# Altium schematic symbol library Resistors[Thin_Chip].SchLib: 110 symbols
Pins are listed as number, name and electrical type; pins without a type are passive.

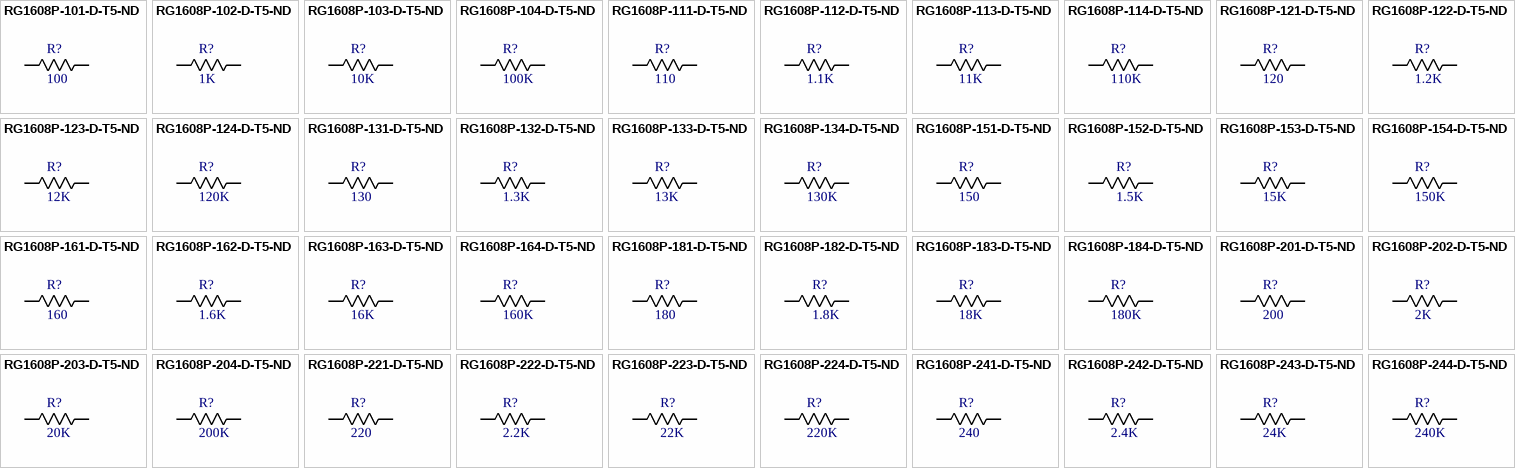
[diagram p0: symbols RG1608P-101-D-T5-ND to RG1608P-244-D-T5-ND]

## RG1608P-101-D-T5-ND
designator R?, comment 100
RES SMD 100 OHM 0.5% 1/10W 0603; Manufacturer_Part_Number: RG1608P-101-D-T5-ND; Vendor: Susumu; Built_By: EMA_UL_Team; SourceLibrary: Susumu_2015_05_08; Copyright: Copyright (C) 2018 Accelerated Designs. All rights reserved; RefDes: RefDes; Type: DEV; Footprint Type: 0603
footprint RES_0816_SUS
footprint RES_0816_SUS(My_MAXI)
pins: 1, 2

## RG1608P-102-D-T5-ND
designator R?, comment 1K
RES SMD 1K OHM 0.5% 1/10W 0603; Manufacturer_Part_Number: RG1608P-102-D-T5-ND; Vendor: Susumu; Built_By: EMA_UL_Team; SourceLibrary: Susumu_2015_05_08; Copyright: Copyright (C) 2018 Accelerated Designs. All rights reserved; RefDes: RefDes; Type: DEV; Footprint Type: 0603
footprint RES_0816_SUS
footprint RES_0816_SUS(My_MAXI)
pins: 1, 2

## RG1608P-103-D-T5-ND
designator R?, comment 10K
RES SMD 10K OHM 0.5% 1/10W 0603; Manufacturer_Part_Number: RG1608P-103-D-T5-ND; Vendor: Susumu; Built_By: EMA_UL_Team; SourceLibrary: Susumu_2015_05_08; Copyright: Copyright (C) 2018 Accelerated Designs. All rights reserved; RefDes: RefDes; Type: DEV; Footprint Type: 0603
footprint RES_0816_SUS
footprint RES_0816_SUS(My_MAXI)
pins: 1, 2

## RG1608P-104-D-T5-ND
designator R?, comment 100K
RES SMD 100K OHM 0.5% 1/10W 0603; Manufacturer_Part_Number: RG1608P-104-D-T5-ND; Vendor: Susumu; Built_By: EMA_UL_Team; SourceLibrary: Susumu_2015_05_08; Copyright: Copyright (C) 2018 Accelerated Designs. All rights reserved; RefDes: RefDes; Type: DEV; Footprint Type: 0603
footprint RES_0816_SUS
footprint RES_0816_SUS(My_MAXI)
pins: 1, 2

## RG1608P-111-D-T5-ND
designator R?, comment 110
RES SMD 110 OHM 0.5% 1/10W 0603; Manufacturer_Part_Number: RG1608P-111-D-T5-ND; Vendor: Susumu; Built_By: EMA_UL_Team; SourceLibrary: Susumu_2015_05_08; Copyright: Copyright (C) 2018 Accelerated Designs. All rights reserved; RefDes: RefDes; Type: DEV; Footprint Type: 0603
footprint RES_0816_SUS
footprint RES_0816_SUS(My_MAXI)
pins: 1, 2

## RG1608P-112-D-T5-ND
designator R?, comment 1.1K
RES SMD 1.1K OHM 0.5% 1/10W 0603; Manufacturer_Part_Number: RG1608P-112-D-T5-ND; Vendor: Susumu; Built_By: EMA_UL_Team; SourceLibrary: Susumu_2015_05_08; Copyright: Copyright (C) 2018 Accelerated Designs. All rights reserved; RefDes: RefDes; Type: DEV; Footprint Type: 0603
footprint RES_0816_SUS
footprint RES_0816_SUS(My_MAXI)
pins: 1, 2

## RG1608P-113-D-T5-ND
designator R?, comment 11K
RES SMD 11K OHM 0.5% 1/10W 0603; Manufacturer_Part_Number: RG1608P-113-D-T5-ND; Vendor: Susumu; Built_By: EMA_UL_Team; SourceLibrary: Susumu_2015_05_08; Copyright: Copyright (C) 2018 Accelerated Designs. All rights reserved; RefDes: RefDes; Type: DEV
footprint RES_0816_SUS
footprint RES_0816_SUS(My_MAXI)
pins: 1, 2

## RG1608P-114-D-T5-ND
designator R?, comment 110K
RES SMD 110K OHM 0.5% 1/10W 0603; Manufacturer_Part_Number: RG1608P-114-D-T5-ND; Vendor: Susumu; Built_By: EMA_UL_Team; SourceLibrary: Susumu_2015_05_08; Copyright: Copyright (C) 2018 Accelerated Designs. All rights reserved; RefDes: RefDes; Type: DEV
footprint RES_0816_SUS
footprint RES_0816_SUS(My_MAXI)
pins: 1, 2

## RG1608P-121-D-T5-ND
designator R?, comment 120
RES SMD 120 OHM 0.5% 1/10W 0603; Manufacturer_Part_Number: RG1608P-121-D-T5-ND; Vendor: Susumu; Built_By: EMA_UL_Team; SourceLibrary: Susumu_2015_05_08; Copyright: Copyright (C) 2018 Accelerated Designs. All rights reserved; RefDes: RefDes; Type: DEV
footprint RES_0816_SUS
footprint RES_0816_SUS(My_MAXI)
pins: 1, 2

## RG1608P-122-D-T5-ND
designator R?, comment 1.2K
RES SMD 1.2K OHM 0.5% 1/10W 0603; Manufacturer_Part_Number: RG1608P-122-D-T5-ND; Vendor: Susumu; Built_By: EMA_UL_Team; SourceLibrary: Susumu_2015_05_08; Copyright: Copyright (C) 2018 Accelerated Designs. All rights reserved; RefDes: RefDes; Type: DEV
footprint RES_0816_SUS
footprint RES_0816_SUS(My_MAXI)
pins: 1, 2

## RG1608P-123-D-T5-ND
designator R?, comment 12K
RES SMD 12K OHM 0.5% 1/10W 0603; Manufacturer_Part_Number: RG1608P-123-D-T5-ND; Vendor: Susumu; Built_By: EMA_UL_Team; SourceLibrary: Susumu_2015_05_08; Copyright: Copyright (C) 2018 Accelerated Designs. All rights reserved; RefDes: RefDes; Type: DEV
footprint RES_0816_SUS
footprint RES_0816_SUS(My_MAXI)
pins: 1, 2

## RG1608P-124-D-T5-ND
designator R?, comment 120K
RES SMD 120K OHM 0.5% 1/10W 0603; Manufacturer_Part_Number: RG1608P-124-D-T5-ND; Vendor: Susumu; Built_By: EMA_UL_Team; SourceLibrary: Susumu_2015_05_08; Copyright: Copyright (C) 2018 Accelerated Designs. All rights reserved; RefDes: RefDes; Type: DEV
footprint RES_0816_SUS
footprint RES_0816_SUS(My_MAXI)
pins: 1, 2

## RG1608P-131-D-T5-ND
designator R?, comment 130
RES SMD 130 OHM 0.5% 1/10W 0603; Manufacturer_Part_Number: RG1608P-131-D-T5-ND; Vendor: Susumu; Built_By: EMA_UL_Team; SourceLibrary: Susumu_2015_05_08; Copyright: Copyright (C) 2018 Accelerated Designs. All rights reserved; RefDes: RefDes; Type: DEV
footprint RES_0816_SUS
footprint RES_0816_SUS(My_MAXI)
pins: 1, 2

## RG1608P-132-D-T5-ND
designator R?, comment 1.3K
RES SMD 1.3K OHM 0.5% 1/10W 0603; Manufacturer_Part_Number: RG1608P-132-D-T5-ND; Vendor: Susumu; Built_By: EMA_UL_Team; SourceLibrary: Susumu_2015_05_08; Copyright: Copyright (C) 2018 Accelerated Designs. All rights reserved; RefDes: RefDes; Type: DEV
footprint RES_0816_SUS
footprint RES_0816_SUS(My_MAXI)
pins: 1, 2

## RG1608P-133-D-T5-ND
designator R?, comment 13K
RES SMD 13K OHM 0.5% 1/10W 0603; Manufacturer_Part_Number: RG1608P-133-D-T5-ND; Vendor: Susumu; Built_By: EMA_UL_Team; SourceLibrary: Susumu_2015_05_08; Copyright: Copyright (C) 2018 Accelerated Designs. All rights reserved; RefDes: RefDes; Type: DEV
footprint RES_0816_SUS
footprint RES_0816_SUS(My_MAXI)
pins: 1, 2

## RG1608P-134-D-T5-ND
designator R?, comment 130K
RES SMD 130K OHM 0.5% 1/10W 0603; Manufacturer_Part_Number: RG1608P-134-D-T5-ND; Vendor: Susumu; Built_By: EMA_UL_Team; SourceLibrary: Susumu_2015_05_08; Copyright: Copyright (C) 2018 Accelerated Designs. All rights reserved; RefDes: RefDes; Type: DEV
footprint RES_0816_SUS
footprint RES_0816_SUS(My_MAXI)
pins: 1, 2

## RG1608P-151-D-T5-ND
designator R?, comment 150
RES SMD 150 OHM 0.5% 1/10W 0603; Manufacturer_Part_Number: RG1608P-151-D-T5-ND; Vendor: Susumu; Built_By: EMA_UL_Team; SourceLibrary: Susumu_2015_05_08; Copyright: Copyright (C) 2018 Accelerated Designs. All rights reserved; RefDes: RefDes; Type: DEV
footprint RES_0816_SUS
footprint RES_0816_SUS(My_MAXI)
pins: 1, 2

## RG1608P-152-D-T5-ND
designator R?, comment 1.5K
RES SMD 1.5K OHM 0.5% 1/10W 0603; Manufacturer_Part_Number: RG1608P-152-D-T5-ND; Vendor: Susumu; Built_By: EMA_UL_Team; SourceLibrary: Susumu_2015_05_08; Copyright: Copyright (C) 2018 Accelerated Designs. All rights reserved; RefDes: RefDes; Type: DEV
footprint RES_0816_SUS
footprint RES_0816_SUS(My_MAXI)
pins: 1, 2

## RG1608P-153-D-T5-ND
designator R?, comment 15K
RES SMD 15K OHM 0.5% 1/10W 0603; Manufacturer_Part_Number: RG1608P-153-D-T5-ND; Vendor: Susumu; Built_By: EMA_UL_Team; SourceLibrary: Susumu_2015_05_08; Copyright: Copyright (C) 2018 Accelerated Designs. All rights reserved; RefDes: RefDes; Type: DEV
footprint RES_0816_SUS
footprint RES_0816_SUS(My_MAXI)
pins: 1, 2

## RG1608P-154-D-T5-ND
designator R?, comment 150K
RES SMD 150K OHM 0.5% 1/10W 0603; Manufacturer_Part_Number: RG1608P-154-D-T5-ND; Vendor: Susumu; Built_By: EMA_UL_Team; SourceLibrary: Susumu_2015_05_08; Copyright: Copyright (C) 2018 Accelerated Designs. All rights reserved; RefDes: RefDes; Type: DEV
footprint RES_0816_SUS
footprint RES_0816_SUS(My_MAXI)
pins: 1, 2

## RG1608P-161-D-T5-ND
designator R?, comment 160
RES SMD 160 OHM 0.5% 1/10W 0603; Manufacturer_Part_Number: RG1608P-161-D-T5-ND; Vendor: Susumu; Built_By: EMA_UL_Team; SourceLibrary: Susumu_2015_05_08; Copyright: Copyright (C) 2018 Accelerated Designs. All rights reserved; RefDes: RefDes; Type: DEV
footprint RES_0816_SUS
footprint RES_0816_SUS(My_MAXI)
pins: 1, 2

## RG1608P-162-D-T5-ND
designator R?, comment 1.6K
RES SMD 1.6K OHM 0.5% 1/10W 0603; Manufacturer_Part_Number: RG1608P-162-D-T5-ND; Vendor: Susumu; Built_By: EMA_UL_Team; SourceLibrary: Susumu_2015_05_08; Copyright: Copyright (C) 2018 Accelerated Designs. All rights reserved; RefDes: RefDes; Type: DEV
footprint RES_0816_SUS
footprint RES_0816_SUS(My_MAXI)
pins: 1, 2

## RG1608P-163-D-T5-ND
designator R?, comment 16K
RES SMD 16K OHM 0.5% 1/10W 0603; Manufacturer_Part_Number: RG1608P-163-D-T5-ND; Vendor: Susumu; Built_By: EMA_UL_Team; SourceLibrary: Susumu_2015_05_08; Copyright: Copyright (C) 2018 Accelerated Designs. All rights reserved; RefDes: RefDes; Type: DEV
footprint RES_0816_SUS
footprint RES_0816_SUS(My_MAXI)
pins: 1, 2

## RG1608P-164-D-T5-ND
designator R?, comment 160K
RES SMD 160K OHM 0.5% 1/10W 0603; Manufacturer_Part_Number: RG1608P-164-D-T5-ND; Vendor: Susumu; Built_By: EMA_UL_Team; SourceLibrary: Susumu_2015_05_08; Copyright: Copyright (C) 2018 Accelerated Designs. All rights reserved; RefDes: RefDes; Type: DEV
footprint RES_0816_SUS
footprint RES_0816_SUS(My_MAXI)
pins: 1, 2

## RG1608P-181-D-T5-ND
designator R?, comment 180
RES SMD 180 OHM 0.5% 1/10W 0603; Manufacturer_Part_Number: RG1608P-181-D-T5-ND; Vendor: Susumu; Built_By: EMA_UL_Team; SourceLibrary: Susumu_2015_05_08; Copyright: Copyright (C) 2018 Accelerated Designs. All rights reserved; RefDes: RefDes; Type: DEV
footprint RES_0816_SUS
footprint RES_0816_SUS(My_MAXI)
pins: 1, 2

## RG1608P-182-D-T5-ND
designator R?, comment 1.8K
RES SMD 1.8K OHM 0.5% 1/10W 0603; Manufacturer_Part_Number: RG1608P-182-D-T5-ND; Vendor: Susumu; Built_By: EMA_UL_Team; SourceLibrary: Susumu_2015_05_08; Copyright: Copyright (C) 2018 Accelerated Designs. All rights reserved; RefDes: RefDes; Type: DEV
footprint RES_0816_SUS
footprint RES_0816_SUS(My_MAXI)
pins: 1, 2

## RG1608P-183-D-T5-ND
designator R?, comment 18K
RES SMD 18K OHM 0.5% 1/10W 0603; Manufacturer_Part_Number: RG1608P-183-D-T5-ND; Vendor: Susumu; Built_By: EMA_UL_Team; SourceLibrary: Susumu_2015_05_08; Copyright: Copyright (C) 2018 Accelerated Designs. All rights reserved; RefDes: RefDes; Type: DEV
footprint RES_0816_SUS
footprint RES_0816_SUS(My_MAXI)
pins: 1, 2

## RG1608P-184-D-T5-ND
designator R?, comment 180K
RES SMD 180K OHM 0.5% 1/10W 0603; Manufacturer_Part_Number: RG1608P-184-D-T5-ND; Vendor: Susumu; Built_By: EMA_UL_Team; SourceLibrary: Susumu_2015_05_08; Copyright: Copyright (C) 2018 Accelerated Designs. All rights reserved; RefDes: RefDes; Type: DEV
footprint RES_0816_SUS
footprint RES_0816_SUS(My_MAXI)
pins: 1, 2

## RG1608P-201-D-T5-ND
designator R?, comment 200
RES SMD 200 OHM 0.5% 1/10W 0603; Manufacturer_Part_Number: RG1608P-201-D-T5-ND; Vendor: Susumu; Built_By: EMA_UL_Team; SourceLibrary: Susumu_2015_05_08; Copyright: Copyright (C) 2018 Accelerated Designs. All rights reserved; RefDes: RefDes; Type: DEV
footprint RES_0816_SUS
footprint RES_0816_SUS(My_MAXI)
pins: 1, 2

## RG1608P-202-D-T5-ND
designator R?, comment 2K
RES SMD 2K OHM 0.5% 1/10W 0603; Manufacturer_Part_Number: RG1608P-202-D-T5-ND; Vendor: Susumu; Built_By: EMA_UL_Team; SourceLibrary: Susumu_2015_05_08; Copyright: Copyright (C) 2018 Accelerated Designs. All rights reserved; RefDes: RefDes; Type: DEV
footprint RES_0816_SUS
footprint RES_0816_SUS(My_MAXI)
pins: 1, 2

## RG1608P-203-D-T5-ND
designator R?, comment 20K
RES SMD 20K OHM 0.5% 1/10W 0603; Manufacturer_Part_Number: RG1608P-203-D-T5-ND; Vendor: Susumu; Built_By: EMA_UL_Team; SourceLibrary: Susumu_2015_05_08; Copyright: Copyright (C) 2018 Accelerated Designs. All rights reserved; RefDes: RefDes; Type: DEV
footprint RES_0816_SUS
footprint RES_0816_SUS(My_MAXI)
pins: 1, 2

## RG1608P-204-D-T5-ND
designator R?, comment 200K
RES SMD 200K OHM 0.5% 1/10W 0603; Manufacturer_Part_Number: RG1608P-204-D-T5-ND; Vendor: Susumu; Built_By: EMA_UL_Team; SourceLibrary: Susumu_2015_05_08; Copyright: Copyright (C) 2018 Accelerated Designs. All rights reserved; RefDes: RefDes; Type: DEV
footprint RES_0816_SUS
footprint RES_0816_SUS(My_MAXI)
pins: 1, 2

## RG1608P-221-D-T5-ND
designator R?, comment 220
RES SMD 220 OHM 0.5% 1/10W 0603; Manufacturer_Part_Number: RG1608P-221-D-T5-ND; Vendor: Susumu; Built_By: EMA_UL_Team; SourceLibrary: Susumu_2015_05_08; Copyright: Copyright (C) 2018 Accelerated Designs. All rights reserved; RefDes: RefDes; Type: DEV
footprint RES_0816_SUS
footprint RES_0816_SUS(My_MAXI)
pins: 1, 2

## RG1608P-222-D-T5-ND
designator R?, comment 2.2K
RES SMD 2.2K OHM 0.5% 1/10W 0603; Manufacturer_Part_Number: RG1608P-222-D-T5-ND; Vendor: Susumu; Built_By: EMA_UL_Team; SourceLibrary: Susumu_2015_05_08; Copyright: Copyright (C) 2018 Accelerated Designs. All rights reserved; RefDes: RefDes; Type: DEV
footprint RES_0816_SUS
footprint RES_0816_SUS(My_MAXI)
pins: 1, 2

## RG1608P-223-D-T5-ND
designator R?, comment 22K
RES SMD 22K OHM 0.5% 1/10W 0603; Manufacturer_Part_Number: RG1608P-223-D-T5-ND; Vendor: Susumu; Built_By: EMA_UL_Team; SourceLibrary: Susumu_2015_05_08; Copyright: Copyright (C) 2018 Accelerated Designs. All rights reserved; RefDes: RefDes; Type: DEV
footprint RES_0816_SUS
footprint RES_0816_SUS(My_MAXI)
pins: 1, 2

## RG1608P-224-D-T5-ND
designator R?, comment 220K
RES SMD 220K OHM 0.5% 1/10W 0603; Manufacturer_Part_Number: RG1608P-224-D-T5-ND; Vendor: Susumu; Built_By: EMA_UL_Team; SourceLibrary: Susumu_2015_05_08; Copyright: Copyright (C) 2018 Accelerated Designs. All rights reserved; RefDes: RefDes; Type: DEV
footprint RES_0816_SUS
footprint RES_0816_SUS(My_MAXI)
pins: 1, 2

## RG1608P-241-D-T5-ND
designator R?, comment 240
RES SMD 240 OHM 0.5% 1/10W 0603; Manufacturer_Part_Number: RG1608P-241-D-T5-ND; Vendor: Susumu; Built_By: EMA_UL_Team; SourceLibrary: Susumu_2015_05_08; Copyright: Copyright (C) 2018 Accelerated Designs. All rights reserved; RefDes: RefDes; Type: DEV
footprint RES_0816_SUS
footprint RES_0816_SUS(My_MAXI)
pins: 1, 2

## RG1608P-242-D-T5-ND
designator R?, comment 2.4K
RES SMD 2.4K OHM 0.5% 1/10W 0603; Manufacturer_Part_Number: RG1608P-242-D-T5-ND; Vendor: Susumu; Built_By: EMA_UL_Team; SourceLibrary: Susumu_2015_05_08; Copyright: Copyright (C) 2018 Accelerated Designs. All rights reserved; RefDes: RefDes; Type: DEV
footprint RES_0816_SUS
footprint RES_0816_SUS(My_MAXI)
pins: 1, 2

## RG1608P-243-D-T5-ND
designator R?, comment 24K
RES SMD 24K OHM 0.5% 1/10W 0603; Manufacturer_Part_Number: RG1608P-243-D-T5-ND; Vendor: Susumu; Built_By: EMA_UL_Team; SourceLibrary: Susumu_2015_05_08; Copyright: Copyright (C) 2018 Accelerated Designs. All rights reserved; RefDes: RefDes; Type: DEV
footprint RES_0816_SUS
footprint RES_0816_SUS(My_MAXI)
pins: 1, 2

## RG1608P-244-D-T5-ND
designator R?, comment 240K
RES SMD 240K OHM 0.5% 1/10W 0603; Manufacturer_Part_Number: RG1608P-244-D-T5-ND; Vendor: Susumu; Built_By: EMA_UL_Team; SourceLibrary: Susumu_2015_05_08; Copyright: Copyright (C) 2018 Accelerated Designs. All rights reserved; RefDes: RefDes; Type: DEV
footprint RES_0816_SUS
footprint RES_0816_SUS(My_MAXI)
pins: 1, 2

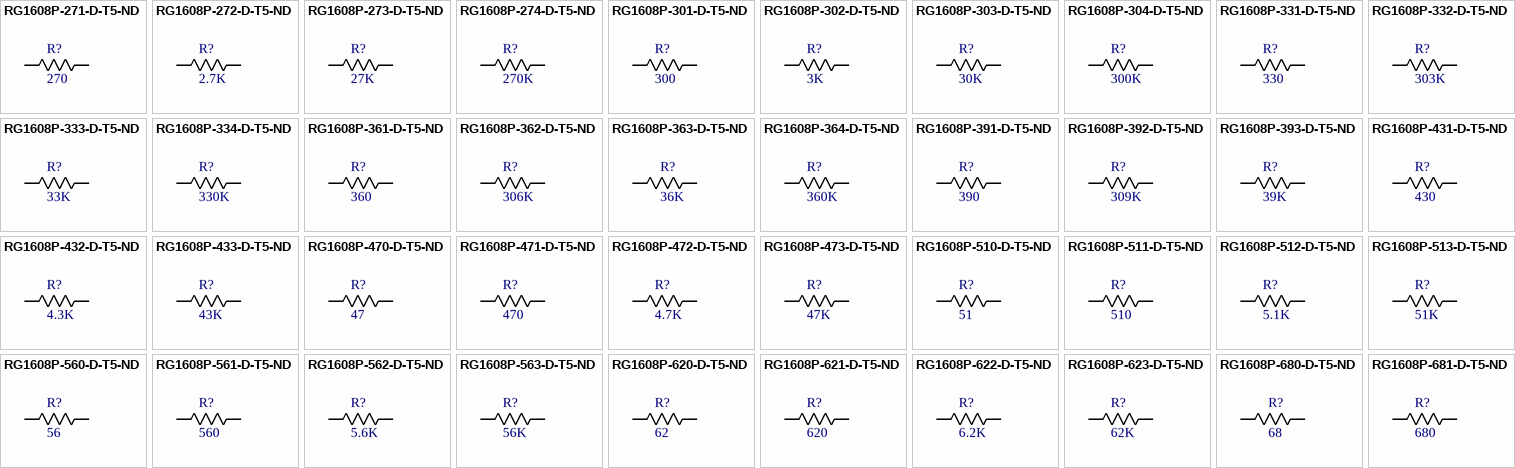
[diagram p1: symbols RG1608P-271-D-T5-ND to RG1608P-681-D-T5-ND]

## RG1608P-271-D-T5-ND
designator R?, comment 270
RES SMD 270 OHM 0.5% 1/10W 0603; Manufacturer_Part_Number: RG1608P-271-D-T5-ND; Vendor: Susumu; Built_By: EMA_UL_Team; SourceLibrary: Susumu_2015_05_08; Copyright: Copyright (C) 2018 Accelerated Designs. All rights reserved; RefDes: RefDes; Type: DEV
footprint RES_0816_SUS
footprint RES_0816_SUS(My_MAXI)
pins: 1, 2

## RG1608P-272-D-T5-ND
designator R?, comment 2.7K
RES SMD 2.7K OHM 0.5% 1/10W 0603; Manufacturer_Part_Number: RG1608P-272-D-T5-ND; Vendor: Susumu; Built_By: EMA_UL_Team; SourceLibrary: Susumu_2015_05_08; Copyright: Copyright (C) 2018 Accelerated Designs. All rights reserved; RefDes: RefDes; Type: DEV
footprint RES_0816_SUS
footprint RES_0816_SUS(My_MAXI)
pins: 1, 2

## RG1608P-273-D-T5-ND
designator R?, comment 27K
RES SMD 27K OHM 0.5% 1/10W 0603; Manufacturer_Part_Number: RG1608P-273-D-T5-ND; Vendor: Susumu; Built_By: EMA_UL_Team; SourceLibrary: Susumu_2015_05_08; Copyright: Copyright (C) 2018 Accelerated Designs. All rights reserved; RefDes: RefDes; Type: DEV
footprint RES_0816_SUS
footprint RES_0816_SUS(My_MAXI)
pins: 1, 2

## RG1608P-274-D-T5-ND
designator R?, comment 270K
RES SMD 270K OHM 0.5% 1/10W 0603; Manufacturer_Part_Number: RG1608P-274-D-T5-ND; Vendor: Susumu; Built_By: EMA_UL_Team; SourceLibrary: Susumu_2015_05_08; Copyright: Copyright (C) 2018 Accelerated Designs. All rights reserved; RefDes: RefDes; Type: DEV
footprint RES_0816_SUS
footprint RES_0816_SUS(My_MAXI)
pins: 1, 2

## RG1608P-301-D-T5-ND
designator R?, comment 300
RES SMD 300 OHM 0.5% 1/10W 0603; Manufacturer_Part_Number: RG1608P-301-D-T5-ND; Vendor: Susumu; Built_By: EMA_UL_Team; SourceLibrary: Susumu_2015_05_08; Copyright: Copyright (C) 2018 Accelerated Designs. All rights reserved; RefDes: RefDes; Type: DEV
footprint RES_0816_SUS
footprint RES_0816_SUS(My_MAXI)
pins: 1, 2

## RG1608P-302-D-T5-ND
designator R?, comment 3K
RES SMD 3K OHM 0.5% 1/10W 0603; Manufacturer_Part_Number: RG1608P-302-D-T5-ND; Vendor: Susumu; Built_By: EMA_UL_Team; SourceLibrary: Susumu_2015_05_08; Copyright: Copyright (C) 2018 Accelerated Designs. All rights reserved; RefDes: RefDes; Type: DEV
footprint RES_0816_SUS
footprint RES_0816_SUS(My_MAXI)
pins: 1, 2

## RG1608P-303-D-T5-ND
designator R?, comment 30K
RES SMD 30K OHM 0.5% 1/10W 0603; Manufacturer_Part_Number: RG1608P-303-D-T5-ND; Vendor: Susumu; Built_By: EMA_UL_Team; SourceLibrary: Susumu_2015_05_08; Copyright: Copyright (C) 2018 Accelerated Designs. All rights reserved; RefDes: RefDes; Type: DEV
footprint RES_0816_SUS
footprint RES_0816_SUS(My_MAXI)
pins: 1, 2

## RG1608P-304-D-T5-ND
designator R?, comment 300K
RES SMD 300K OHM 0.5% 1/10W 0603; Manufacturer_Part_Number: RG1608P-304-D-T5-ND; Vendor: Susumu; Built_By: EMA_UL_Team; SourceLibrary: Susumu_2015_05_08; Copyright: Copyright (C) 2018 Accelerated Designs. All rights reserved; RefDes: RefDes; Type: DEV
footprint RES_0816_SUS
footprint RES_0816_SUS(My_MAXI)
pins: 1, 2

## RG1608P-331-D-T5-ND
designator R?, comment 330
RES SMD 330 OHM 0.5% 1/10W 0603; Manufacturer_Part_Number: RG1608P-331-D-T5-ND; Vendor: Susumu; Built_By: EMA_UL_Team; SourceLibrary: Susumu_2015_05_08; Copyright: Copyright (C) 2018 Accelerated Designs. All rights reserved; RefDes: RefDes; Type: DEV
footprint RES_0816_SUS
footprint RES_0816_SUS(My_MAXI)
pins: 1, 2

## RG1608P-332-D-T5-ND
designator R?, comment 303K
RES SMD 3.3K OHM 0.5% 1/10W 0603; Manufacturer_Part_Number: RG1608P-332-D-T5-ND; Vendor: Susumu; Built_By: EMA_UL_Team; SourceLibrary: Susumu_2015_05_08; Copyright: Copyright (C) 2018 Accelerated Designs. All rights reserved; RefDes: RefDes; Type: DEV
footprint RES_0816_SUS
footprint RES_0816_SUS(My_MAXI)
pins: 1, 2

## RG1608P-333-D-T5-ND
designator R?, comment 33K
RES SMD 33K OHM 0.5% 1/10W 0603; Manufacturer_Part_Number: RG1608P-333-D-T5-ND; Vendor: Susumu; Built_By: EMA_UL_Team; SourceLibrary: Susumu_2015_05_08; Copyright: Copyright (C) 2018 Accelerated Designs. All rights reserved; RefDes: RefDes; Type: DEV
footprint RES_0816_SUS
footprint RES_0816_SUS(My_MAXI)
pins: 1, 2

## RG1608P-334-D-T5-ND
designator R?, comment 330K
RES SMD 330K OHM 0.5% 1/10W 0603; Manufacturer_Part_Number: RG1608P-334-D-T5-ND; Vendor: Susumu; Built_By: EMA_UL_Team; SourceLibrary: Susumu_2015_05_08; Copyright: Copyright (C) 2018 Accelerated Designs. All rights reserved; RefDes: RefDes; Type: DEV
footprint RES_0816_SUS
footprint RES_0816_SUS(My_MAXI)
pins: 1, 2

## RG1608P-361-D-T5-ND
designator R?, comment 360
RES SMD 360 OHM 0.5% 1/10W 0603; Manufacturer_Part_Number: RG1608P-361-D-T5-ND; Vendor: Susumu; Built_By: EMA_UL_Team; SourceLibrary: Susumu_2015_05_08; Copyright: Copyright (C) 2018 Accelerated Designs. All rights reserved; RefDes: RefDes; Type: DEV
footprint RES_0816_SUS
footprint RES_0816_SUS(My_MAXI)
pins: 1, 2

## RG1608P-362-D-T5-ND
designator R?, comment 306K
RES SMD 3.6K OHM 0.5% 1/10W 0603; Manufacturer_Part_Number: RG1608P-362-D-T5-ND; Vendor: Susumu; Built_By: EMA_UL_Team; SourceLibrary: Susumu_2015_05_08; Copyright: Copyright (C) 2018 Accelerated Designs. All rights reserved; RefDes: RefDes; Type: DEV
footprint RES_0816_SUS
footprint RES_0816_SUS(My_MAXI)
pins: 1, 2

## RG1608P-363-D-T5-ND
designator R?, comment 36K
RES SMD 36K OHM 0.5% 1/10W 0603; Manufacturer_Part_Number: RG1608P-363-D-T5-ND; Vendor: Susumu; Built_By: EMA_UL_Team; SourceLibrary: Susumu_2015_05_08; Copyright: Copyright (C) 2018 Accelerated Designs. All rights reserved; RefDes: RefDes; Type: DEV
footprint RES_0816_SUS
footprint RES_0816_SUS(My_MAXI)
pins: 1, 2

## RG1608P-364-D-T5-ND
designator R?, comment 360K
RES SMD 360K OHM 0.5% 1/10W 0603; Manufacturer_Part_Number: RG1608P-364-D-T5-ND; Vendor: Susumu; Built_By: EMA_UL_Team; SourceLibrary: Susumu_2015_05_08; Copyright: Copyright (C) 2018 Accelerated Designs. All rights reserved; RefDes: RefDes; Type: DEV
footprint RES_0816_SUS
footprint RES_0816_SUS(My_MAXI)
pins: 1, 2

## RG1608P-391-D-T5-ND
designator R?, comment 390
RES SMD 390 OHM 0.5% 1/10W 0603; Manufacturer_Part_Number: RG1608P-391-D-T5-ND; Vendor: Susumu; Built_By: EMA_UL_Team; SourceLibrary: Susumu_2015_05_08; Copyright: Copyright (C) 2018 Accelerated Designs. All rights reserved; RefDes: RefDes; Type: DEV
footprint RES_0816_SUS
footprint RES_0816_SUS(My_MAXI)
pins: 1, 2

## RG1608P-392-D-T5-ND
designator R?, comment 309K
RES SMD 3.9K OHM 0.5% 1/10W 0603; Manufacturer_Part_Number: RG1608P-392-D-T5-ND; Vendor: Susumu; Built_By: EMA_UL_Team; SourceLibrary: Susumu_2015_05_08; Copyright: Copyright (C) 2018 Accelerated Designs. All rights reserved; RefDes: RefDes; Type: DEV
footprint RES_0816_SUS
footprint RES_0816_SUS(My_MAXI)
pins: 1, 2

## RG1608P-393-D-T5-ND
designator R?, comment 39K
RES SMD 39K OHM 0.5% 1/10W 0603; Manufacturer_Part_Number: RG1608P-393-D-T5-ND; Vendor: Susumu; Built_By: EMA_UL_Team; SourceLibrary: Susumu_2015_05_08; Copyright: Copyright (C) 2018 Accelerated Designs. All rights reserved; RefDes: RefDes; Type: DEV
footprint RES_0816_SUS
footprint RES_0816_SUS(My_MAXI)
pins: 1, 2

## RG1608P-431-D-T5-ND
designator R?, comment 430
RES SMD 430 OHM 0.5% 1/10W 0603; Manufacturer_Part_Number: RG1608P-431-D-T5-ND; Vendor: Susumu; Built_By: EMA_UL_Team; SourceLibrary: Susumu_2015_05_08; Copyright: Copyright (C) 2018 Accelerated Designs. All rights reserved; RefDes: RefDes; Type: DEV
footprint RES_0816_SUS
footprint RES_0816_SUS(My_MAXI)
pins: 1, 2

## RG1608P-432-D-T5-ND
designator R?, comment 4.3K
RES SMD 4.3K OHM 0.5% 1/10W 0603; Manufacturer_Part_Number: RG1608P-432-D-T5-ND; Vendor: Susumu; Built_By: EMA_UL_Team; SourceLibrary: Susumu_2015_05_08; Copyright: Copyright (C) 2018 Accelerated Designs. All rights reserved; RefDes: RefDes; Type: DEV
footprint RES_0816_SUS
footprint RES_0816_SUS(My_MAXI)
pins: 1, 2

## RG1608P-433-D-T5-ND
designator R?, comment 43K
RES SMD 43K OHM 0.5% 1/10W 0603; Manufacturer_Part_Number: RG1608P-433-D-T5-ND; Vendor: Susumu; Built_By: EMA_UL_Team; SourceLibrary: Susumu_2015_05_08; Copyright: Copyright (C) 2018 Accelerated Designs. All rights reserved; RefDes: RefDes; Type: DEV
footprint RES_0816_SUS
footprint RES_0816_SUS(My_MAXI)
pins: 1, 2

## RG1608P-470-D-T5-ND
designator R?, comment 47
RES SMD 47 OHM 0.5% 1/10W 0603; Manufacturer_Part_Number: RG1608P-470-D-T5-ND; Vendor: Susumu; Built_By: EMA_UL_Team; SourceLibrary: Susumu_2015_05_08; Copyright: Copyright (C) 2018 Accelerated Designs. All rights reserved; RefDes: RefDes; Type: DEV
footprint RES_0816_SUS
footprint RES_0816_SUS(My_MAXI)
pins: 1, 2

## RG1608P-471-D-T5-ND
designator R?, comment 470
RES SMD 470 OHM 0.5% 1/10W 0603; Manufacturer_Part_Number: RG1608P-471-D-T5-ND; Vendor: Susumu; Built_By: EMA_UL_Team; SourceLibrary: Susumu_2015_05_08; Copyright: Copyright (C) 2018 Accelerated Designs. All rights reserved; RefDes: RefDes; Type: DEV
footprint RES_0816_SUS
footprint RES_0816_SUS(My_MAXI)
pins: 1, 2

## RG1608P-472-D-T5-ND
designator R?, comment 4.7K
RES SMD 4.7K OHM 0.5% 1/10W 0603; Manufacturer_Part_Number: RG1608P-472-D-T5-ND; Vendor: Susumu; Built_By: EMA_UL_Team; SourceLibrary: Susumu_2015_05_08; Copyright: Copyright (C) 2018 Accelerated Designs. All rights reserved; RefDes: RefDes; Type: DEV
footprint RES_0816_SUS
footprint RES_0816_SUS(My_MAXI)
pins: 1, 2

## RG1608P-473-D-T5-ND
designator R?, comment 47K
RES SMD 47K OHM 0.5% 1/10W 0603; Manufacturer_Part_Number: RG1608P-473-D-T5-ND; Vendor: Susumu; Built_By: EMA_UL_Team; SourceLibrary: Susumu_2015_05_08; Copyright: Copyright (C) 2018 Accelerated Designs. All rights reserved; RefDes: RefDes; Type: DEV
footprint RES_0816_SUS
footprint RES_0816_SUS(My_MAXI)
pins: 1, 2

## RG1608P-510-D-T5-ND
designator R?, comment 51
RES SMD 51 OHM 0.5% 1/10W 0603; Manufacturer_Part_Number: RG1608P-510-D-T5-ND; Vendor: Susumu; Built_By: EMA_UL_Team; SourceLibrary: Susumu_2015_05_08; Copyright: Copyright (C) 2018 Accelerated Designs. All rights reserved; RefDes: RefDes; Type: DEV
footprint RES_0816_SUS
footprint RES_0816_SUS(My_MAXI)
pins: 1, 2

## RG1608P-511-D-T5-ND
designator R?, comment 510
RES SMD 510 OHM 0.5% 1/10W 0603; Manufacturer_Part_Number: RG1608P-511-D-T5-ND; Vendor: Susumu; Built_By: EMA_UL_Team; SourceLibrary: Susumu_2015_05_08; Copyright: Copyright (C) 2018 Accelerated Designs. All rights reserved; RefDes: RefDes; Type: DEV
footprint RES_0816_SUS
footprint RES_0816_SUS(My_MAXI)
pins: 1, 2

## RG1608P-512-D-T5-ND
designator R?, comment 5.1K
RES SMD 5.1K OHM 0.5% 1/10W 0603; Manufacturer_Part_Number: RG1608P-512-D-T5-ND; Vendor: Susumu; Built_By: EMA_UL_Team; SourceLibrary: Susumu_2015_05_08; Copyright: Copyright (C) 2018 Accelerated Designs. All rights reserved; RefDes: RefDes; Type: DEV
footprint RES_0816_SUS
footprint RES_0816_SUS(My_MAXI)
pins: 1, 2

## RG1608P-513-D-T5-ND
designator R?, comment 51K
RES SMD 51K OHM 0.5% 1/10W 0603; Manufacturer_Part_Number: RG1608P-513-D-T5-ND; Vendor: Susumu; Built_By: EMA_UL_Team; SourceLibrary: Susumu_2015_05_08; Copyright: Copyright (C) 2018 Accelerated Designs. All rights reserved; RefDes: RefDes; Type: DEV
footprint RES_0816_SUS
footprint RES_0816_SUS(My_MAXI)
pins: 1, 2

## RG1608P-560-D-T5-ND
designator R?, comment 56
RES SMD 56 OHM 0.5% 1/10W 0603; Manufacturer_Part_Number: RG1608P-560-D-T5-ND; Vendor: Susumu; Built_By: EMA_UL_Team; SourceLibrary: Susumu_2015_05_08; Copyright: Copyright (C) 2018 Accelerated Designs. All rights reserved; RefDes: RefDes; Type: DEV
footprint RES_0816_SUS
footprint RES_0816_SUS(My_MAXI)
pins: 1, 2

## RG1608P-561-D-T5-ND
designator R?, comment 560
RES SMD 560 OHM 0.5% 1/10W 0603; Manufacturer_Part_Number: RG1608P-561-D-T5-ND; Vendor: Susumu; Built_By: EMA_UL_Team; SourceLibrary: Susumu_2015_05_08; Copyright: Copyright (C) 2018 Accelerated Designs. All rights reserved; RefDes: RefDes; Type: DEV
footprint RES_0816_SUS
footprint RES_0816_SUS(My_MAXI)
pins: 1, 2

## RG1608P-562-D-T5-ND
designator R?, comment 5.6K
RES SMD 5.6K OHM 0.5% 1/10W 0603; Manufacturer_Part_Number: RG1608P-562-D-T5-ND; Vendor: Susumu; Built_By: EMA_UL_Team; SourceLibrary: Susumu_2015_05_08; Copyright: Copyright (C) 2018 Accelerated Designs. All rights reserved; RefDes: RefDes; Type: DEV
footprint RES_0816_SUS
footprint RES_0816_SUS(My_MAXI)
pins: 1, 2

## RG1608P-563-D-T5-ND
designator R?, comment 56K
RES SMD 56K OHM 0.5% 1/10W 0603; Manufacturer_Part_Number: RG1608P-563-D-T5-ND; Vendor: Susumu; Built_By: EMA_UL_Team; SourceLibrary: Susumu_2015_05_08; Copyright: Copyright (C) 2018 Accelerated Designs. All rights reserved; RefDes: RefDes; Type: DEV
footprint RES_0816_SUS
footprint RES_0816_SUS(My_MAXI)
pins: 1, 2

## RG1608P-620-D-T5-ND
designator R?, comment 62
RES SMD 62 OHM 0.5% 1/10W 0603; Manufacturer_Part_Number: RG1608P-620-D-T5-ND; Vendor: Susumu; Built_By: EMA_UL_Team; SourceLibrary: Susumu_2015_05_08; Copyright: Copyright (C) 2018 Accelerated Designs. All rights reserved; RefDes: RefDes; Type: DEV
footprint RES_0816_SUS
footprint RES_0816_SUS(My_MAXI)
pins: 1, 2

## RG1608P-621-D-T5-ND
designator R?, comment 620
RES SMD 620 OHM 0.5% 1/10W 0603; Manufacturer_Part_Number: RG1608P-621-D-T5-ND; Vendor: Susumu; Built_By: EMA_UL_Team; SourceLibrary: Susumu_2015_05_08; Copyright: Copyright (C) 2018 Accelerated Designs. All rights reserved; RefDes: RefDes; Type: DEV
footprint RES_0816_SUS
footprint RES_0816_SUS(My_MAXI)
pins: 1, 2

## RG1608P-622-D-T5-ND
designator R?, comment 6.2K
RES SMD 6.2K OHM 0.5% 1/10W 0603; Manufacturer_Part_Number: RG1608P-622-D-T5-ND; Vendor: Susumu; Built_By: EMA_UL_Team; SourceLibrary: Susumu_2015_05_08; Copyright: Copyright (C) 2018 Accelerated Designs. All rights reserved; RefDes: RefDes; Type: DEV
footprint RES_0816_SUS
footprint RES_0816_SUS(My_MAXI)
pins: 1, 2

## RG1608P-623-D-T5-ND
designator R?, comment 62K
RES SMD 62K OHM 0.5% 1/10W 0603; Manufacturer_Part_Number: RG1608P-623-D-T5-ND; Vendor: Susumu; Built_By: EMA_UL_Team; SourceLibrary: Susumu_2015_05_08; Copyright: Copyright (C) 2018 Accelerated Designs. All rights reserved; RefDes: RefDes; Type: DEV
footprint RES_0816_SUS
footprint RES_0816_SUS(My_MAXI)
pins: 1, 2

## RG1608P-680-D-T5-ND
designator R?, comment 68
RES SMD 68 OHM 0.5% 1/10W 0603; Manufacturer_Part_Number: RG1608P-680-D-T5-ND; Vendor: Susumu; Built_By: EMA_UL_Team; SourceLibrary: Susumu_2015_05_08; Copyright: Copyright (C) 2018 Accelerated Designs. All rights reserved; RefDes: RefDes; Type: DEV
footprint RES_0816_SUS
footprint RES_0816_SUS(My_MAXI)
pins: 1, 2

## RG1608P-681-D-T5-ND
designator R?, comment 680
RES SMD 680 OHM 0.5% 1/10W 0603; Manufacturer_Part_Number: RG1608P-681-D-T5-ND; Vendor: Susumu; Built_By: EMA_UL_Team; SourceLibrary: Susumu_2015_05_08; Copyright: Copyright (C) 2018 Accelerated Designs. All rights reserved; RefDes: RefDes; Type: DEV
footprint RES_0816_SUS
footprint RES_0816_SUS(My_MAXI)
pins: 1, 2

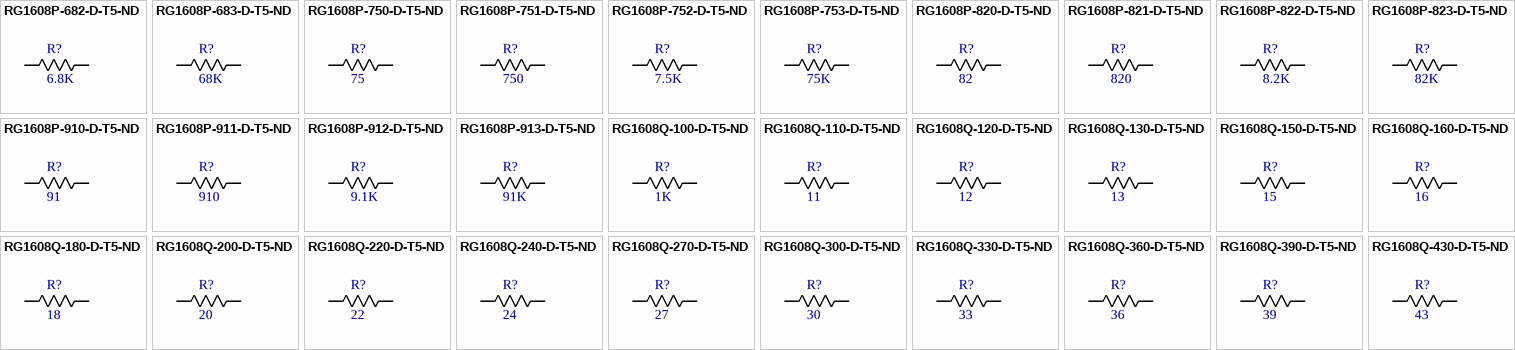
[diagram p2: symbols RG1608P-682-D-T5-ND to RG1608Q-430-D-T5-ND]

## RG1608P-682-D-T5-ND
designator R?, comment 6.8K
RES SMD 6.8K OHM 0.5% 1/10W 0603; Manufacturer_Part_Number: RG1608P-682-D-T5-ND; Vendor: Susumu; Built_By: EMA_UL_Team; SourceLibrary: Susumu_2015_05_08; Copyright: Copyright (C) 2018 Accelerated Designs. All rights reserved; RefDes: RefDes; Type: DEV
footprint RES_0816_SUS
footprint RES_0816_SUS(My_MAXI)
pins: 1, 2

## RG1608P-683-D-T5-ND
designator R?, comment 68K
RES SMD 68K OHM 0.5% 1/10W 0603; Manufacturer_Part_Number: RG1608P-683-D-T5-ND; Vendor: Susumu; Built_By: EMA_UL_Team; SourceLibrary: Susumu_2015_05_08; Copyright: Copyright (C) 2018 Accelerated Designs. All rights reserved; RefDes: RefDes; Type: DEV
footprint RES_0816_SUS
footprint RES_0816_SUS(My_MAXI)
pins: 1, 2

## RG1608P-750-D-T5-ND
designator R?, comment 75
RES SMD 75 OHM 0.5% 1/10W 0603; Manufacturer_Part_Number: RG1608P-750-D-T5-ND; Vendor: Susumu; Built_By: EMA_UL_Team; SourceLibrary: Susumu_2015_05_08; Copyright: Copyright (C) 2018 Accelerated Designs. All rights reserved; RefDes: RefDes; Type: DEV
footprint RES_0816_SUS
footprint RES_0816_SUS(My_MAXI)
pins: 1, 2

## RG1608P-751-D-T5-ND
designator R?, comment 750
RES SMD 750 OHM 0.5% 1/10W 0603; Manufacturer_Part_Number: RG1608P-751-D-T5-ND; Vendor: Susumu; Built_By: EMA_UL_Team; SourceLibrary: Susumu_2015_05_08; Copyright: Copyright (C) 2018 Accelerated Designs. All rights reserved; RefDes: RefDes; Type: DEV
footprint RES_0816_SUS
footprint RES_0816_SUS(My_MAXI)
pins: 1, 2

## RG1608P-752-D-T5-ND
designator R?, comment 7.5K
RES SMD 7.5K OHM 0.5% 1/10W 0603; Manufacturer_Part_Number: RG1608P-752-D-T5-ND; Vendor: Susumu; Built_By: EMA_UL_Team; SourceLibrary: Susumu_2015_05_08; Copyright: Copyright (C) 2018 Accelerated Designs. All rights reserved; RefDes: RefDes; Type: DEV
footprint RES_0816_SUS
footprint RES_0816_SUS(My_MAXI)
pins: 1, 2

## RG1608P-753-D-T5-ND
designator R?, comment 75K
RES SMD 75K OHM 0.5% 1/10W 0603; Manufacturer_Part_Number: RG1608P-753-D-T5-ND; Vendor: Susumu; Built_By: EMA_UL_Team; SourceLibrary: Susumu_2015_05_08; Copyright: Copyright (C) 2018 Accelerated Designs. All rights reserved; RefDes: RefDes; Type: DEV
footprint RES_0816_SUS
footprint RES_0816_SUS(My_MAXI)
pins: 1, 2

## RG1608P-820-D-T5-ND
designator R?, comment 82
RES SMD 82 OHM 0.5% 1/10W 0603; Manufacturer_Part_Number: RG1608P-820-D-T5-ND; Vendor: Susumu; Built_By: EMA_UL_Team; SourceLibrary: Susumu_2015_05_08; Copyright: Copyright (C) 2018 Accelerated Designs. All rights reserved; RefDes: RefDes; Type: DEV
footprint RES_0816_SUS
footprint RES_0816_SUS(My_MAXI)
pins: 1, 2

## RG1608P-821-D-T5-ND
designator R?, comment 820
RES SMD 820 OHM 0.5% 1/10W 0603; Manufacturer_Part_Number: RG1608P-821-D-T5-ND; Vendor: Susumu; Built_By: EMA_UL_Team; SourceLibrary: Susumu_2015_05_08; Copyright: Copyright (C) 2018 Accelerated Designs. All rights reserved; RefDes: RefDes; Type: DEV
footprint RES_0816_SUS
footprint RES_0816_SUS(My_MAXI)
pins: 1, 2

## RG1608P-822-D-T5-ND
designator R?, comment 8.2K
RES SMD 8.2K OHM 0.5% 1/10W 0603; Manufacturer_Part_Number: RG1608P-822-D-T5-ND; Vendor: Susumu; Built_By: EMA_UL_Team; SourceLibrary: Susumu_2015_05_08; Copyright: Copyright (C) 2018 Accelerated Designs. All rights reserved; RefDes: RefDes; Type: DEV
footprint RES_0816_SUS
footprint RES_0816_SUS(My_MAXI)
pins: 1, 2

## RG1608P-823-D-T5-ND
designator R?, comment 82K
RES SMD 82K OHM 0.5% 1/10W 0603; Manufacturer_Part_Number: RG1608P-823-D-T5-ND; Vendor: Susumu; Built_By: EMA_UL_Team; SourceLibrary: Susumu_2015_05_08; Copyright: Copyright (C) 2018 Accelerated Designs. All rights reserved; RefDes: RefDes; Type: DEV
footprint RES_0816_SUS
footprint RES_0816_SUS(My_MAXI)
pins: 1, 2

## RG1608P-910-D-T5-ND
designator R?, comment 91
RES SMD 91 OHM 0.5% 1/10W 0603; Manufacturer_Part_Number: RG1608P-910-D-T5-ND; Vendor: Susumu; Built_By: EMA_UL_Team; SourceLibrary: Susumu_2015_05_08; Copyright: Copyright (C) 2018 Accelerated Designs. All rights reserved; RefDes: RefDes; Type: DEV
footprint RES_0816_SUS
footprint RES_0816_SUS(My_MAXI)
pins: 1, 2

## RG1608P-911-D-T5-ND
designator R?, comment 910
RES SMD 910 OHM 0.5% 1/10W 0603; Manufacturer_Part_Number: RG1608P-911-D-T5-ND; Vendor: Susumu; Built_By: EMA_UL_Team; SourceLibrary: Susumu_2015_05_08; Copyright: Copyright (C) 2018 Accelerated Designs. All rights reserved; RefDes: RefDes; Type: DEV
footprint RES_0816_SUS
footprint RES_0816_SUS(My_MAXI)
pins: 1, 2

## RG1608P-912-D-T5-ND
designator R?, comment 9.1K
RES SMD 9.1K OHM 0.5% 1/10W 0603; Manufacturer_Part_Number: RG1608P-912-D-T5-ND; Vendor: Susumu; Built_By: EMA_UL_Team; SourceLibrary: Susumu_2015_05_08; Copyright: Copyright (C) 2018 Accelerated Designs. All rights reserved; RefDes: RefDes; Type: DEV
footprint RES_0816_SUS
footprint RES_0816_SUS(My_MAXI)
pins: 1, 2

## RG1608P-913-D-T5-ND
designator R?, comment 91K
RES SMD 91K OHM 0.5% 1/10W 0603; Manufacturer_Part_Number: RG1608P-913-D-T5-ND; Vendor: Susumu; Built_By: EMA_UL_Team; SourceLibrary: Susumu_2015_05_08; Copyright: Copyright (C) 2018 Accelerated Designs. All rights reserved; RefDes: RefDes; Type: DEV
footprint RES_0816_SUS
footprint RES_0816_SUS(My_MAXI)
pins: 1, 2

## RG1608Q-100-D-T5-ND
designator R?, comment 1K
RES SMD 1K OHM 0.5% 1/10W 0603; Manufacturer_Part_Number: RG1608Q-100-D-T5-ND; Vendor: Susumu; Built_By: EMA_UL_Team; RefDes: RefDes; Type: DEV
footprint RES_0816_SUS
footprint RES_0816_SUS(My_MAXI)
pins: 1, 2

## RG1608Q-110-D-T5-ND
designator R?, comment 11
RES SMD 11 OHM 0.5% 1/10W 0603; Manufacturer_Part_Number: RG1608Q-110-D-T5-ND; Vendor: Susumu; Built_By: EMA_UL_Team; SourceLibrary: Susumu_2015_05_08; Copyright: Copyright (C) 2018 Accelerated Designs. All rights reserved; RefDes: RefDes; Type: DEV
footprint RES_0816_SUS
footprint RES_0816_SUS(My_MAXI)
pins: 1, 2

## RG1608Q-120-D-T5-ND
designator R?, comment 12
RES SMD 12 OHM 0.5% 1/10W 0603; Manufacturer_Part_Number: RG1608Q-120-D-T5-ND; Vendor: Susumu; Built_By: EMA_UL_Team; SourceLibrary: Susumu_2015_05_08; Copyright: Copyright (C) 2018 Accelerated Designs. All rights reserved; RefDes: RefDes; Type: DEV
footprint RES_0816_SUS
footprint RES_0816_SUS(My_MAXI)
pins: 1, 2

## RG1608Q-130-D-T5-ND
designator R?, comment 13
RES SMD 13 OHM 0.5% 1/10W 0603; Manufacturer_Part_Number: RG1608Q-130-D-T5-ND; Vendor: Susumu; Built_By: EMA_UL_Team; SourceLibrary: Susumu_2015_05_08; Copyright: Copyright (C) 2018 Accelerated Designs. All rights reserved; RefDes: RefDes; Type: DEV
footprint RES_0816_SUS
footprint RES_0816_SUS(My_MAXI)
pins: 1, 2

## RG1608Q-150-D-T5-ND
designator R?, comment 15
RES SMD 15 OHM 0.5% 1/10W 0603; Manufacturer_Part_Number: RG1608Q-150-D-T5-ND; Vendor: Susumu; Built_By: EMA_UL_Team; SourceLibrary: Susumu_2015_05_08; Copyright: Copyright (C) 2018 Accelerated Designs. All rights reserved; RefDes: RefDes; Type: DEV
footprint RES_0816_SUS
footprint RES_0816_SUS(My_MAXI)
pins: 1, 2

## RG1608Q-160-D-T5-ND
designator R?, comment 16
RES SMD 16 OHM 0.5% 1/10W 0603; Manufacturer_Part_Number: RG1608Q-160-D-T5-ND; Vendor: Susumu; Built_By: EMA_UL_Team; SourceLibrary: Susumu_2015_05_08; Copyright: Copyright (C) 2018 Accelerated Designs. All rights reserved; RefDes: RefDes; Type: DEV
footprint RES_0816_SUS
footprint RES_0816_SUS(My_MAXI)
pins: 1, 2

## RG1608Q-180-D-T5-ND
designator R?, comment 18
RES SMD 18 OHM 0.5% 1/10W 0603; Manufacturer_Part_Number: RG1608Q-180-D-T5-ND; Vendor: Susumu; Built_By: EMA_UL_Team; SourceLibrary: Susumu_2015_05_08; Copyright: Copyright (C) 2018 Accelerated Designs. All rights reserved; RefDes: RefDes; Type: DEV
footprint RES_0816_SUS
footprint RES_0816_SUS(My_MAXI)
pins: 1, 2

## RG1608Q-200-D-T5-ND
designator R?, comment 20
RES SMD 20 OHM 0.5% 1/10W 0603; Manufacturer_Part_Number: RG1608Q-200-D-T5-ND; Vendor: Susumu; Built_By: EMA_UL_Team; SourceLibrary: Susumu_2015_05_08; Copyright: Copyright (C) 2018 Accelerated Designs. All rights reserved; RefDes: RefDes; Type: DEV
footprint RES_0816_SUS
footprint RES_0816_SUS(My_MAXI)
pins: 1, 2

## RG1608Q-220-D-T5-ND
designator R?, comment 22
RES SMD 22 OHM 0.5% 1/10W 0603; Manufacturer_Part_Number: RG1608Q-220-D-T5-ND; Vendor: Susumu; Built_By: EMA_UL_Team; SourceLibrary: Susumu_2015_05_08; Copyright: Copyright (C) 2018 Accelerated Designs. All rights reserved; RefDes: RefDes; Type: DEV
footprint RES_0816_SUS
footprint RES_0816_SUS(My_MAXI)
pins: 1, 2

## RG1608Q-240-D-T5-ND
designator R?, comment 24
RES SMD 24 OHM 0.5% 1/10W 0603; Manufacturer_Part_Number: RG1608Q-240-D-T5-ND; Vendor: Susumu; Built_By: EMA_UL_Team; SourceLibrary: Susumu_2015_05_08; Copyright: Copyright (C) 2018 Accelerated Designs. All rights reserved; RefDes: RefDes; Type: DEV
footprint RES_0816_SUS
footprint RES_0816_SUS(My_MAXI)
pins: 1, 2

## RG1608Q-270-D-T5-ND
designator R?, comment 27
RES SMD 27 OHM 0.5% 1/10W 0603; Manufacturer_Part_Number: RG1608Q-270-D-T5-ND; Vendor: Susumu; Built_By: EMA_UL_Team; SourceLibrary: Susumu_2015_05_08; Copyright: Copyright (C) 2018 Accelerated Designs. All rights reserved; RefDes: RefDes; Type: DEV
footprint RES_0816_SUS
footprint RES_0816_SUS(My_MAXI)
pins: 1, 2

## RG1608Q-300-D-T5-ND
designator R?, comment 30
RES SMD 30 OHM 0.5% 1/10W 0603; Manufacturer_Part_Number: RG1608Q-300-D-T5-ND; Vendor: Susumu; Built_By: EMA_UL_Team; SourceLibrary: Susumu_2015_05_08; Copyright: Copyright (C) 2018 Accelerated Designs. All rights reserved; RefDes: RefDes; Type: DEV
footprint RES_0816_SUS
footprint RES_0816_SUS(My_MAXI)
pins: 1, 2

## RG1608Q-330-D-T5-ND
designator R?, comment 33
RES SMD 33 OHM 0.5% 1/10W 0603; Manufacturer_Part_Number: RG1608Q-330-D-T5-ND; Vendor: Susumu; Built_By: EMA_UL_Team; SourceLibrary: Susumu_2015_05_08; Copyright: Copyright (C) 2018 Accelerated Designs. All rights reserved; RefDes: RefDes; Type: DEV
footprint RES_0816_SUS
footprint RES_0816_SUS(My_MAXI)
pins: 1, 2

## RG1608Q-360-D-T5-ND
designator R?, comment 36
RES SMD 36 OHM 0.5% 1/10W 0603; Manufacturer_Part_Number: RG1608Q-360-D-T5-ND; Vendor: Susumu; Built_By: EMA_UL_Team; SourceLibrary: Susumu_2015_05_08; Copyright: Copyright (C) 2018 Accelerated Designs. All rights reserved; RefDes: RefDes; Type: DEV
footprint RES_0816_SUS
footprint RES_0816_SUS(My_MAXI)
pins: 1, 2

## RG1608Q-390-D-T5-ND
designator R?, comment 39
RES SMD 39 OHM 0.5% 1/10W 0603; Manufacturer_Part_Number: RG1608Q-390-D-T5-ND; Vendor: Susumu; Built_By: EMA_UL_Team; SourceLibrary: Susumu_2015_05_08; Copyright: Copyright (C) 2018 Accelerated Designs. All rights reserved; RefDes: RefDes; Type: DEV
footprint RES_0816_SUS
footprint RES_0816_SUS(My_MAXI)
pins: 1, 2

## RG1608Q-430-D-T5-ND
designator R?, comment 43
RES SMD 43 OHM 0.5% 1/10W 0603; Manufacturer_Part_Number: RG1608Q-430-D-T5-ND; Vendor: Susumu; Built_By: EMA_UL_Team; SourceLibrary: Susumu_2015_05_08; Copyright: Copyright (C) 2018 Accelerated Designs. All rights reserved; RefDes: RefDes; Type: DEV; footprint Type: 0603
footprint RES_0816_SUS(My_MAXI)
footprint RES_0816_SUS
pins: 1, 2